# Altium footprint library TPD2E001DZDR.PcbLib: 1 footprints
Each footprint in its own frame and in the unit in brackets; x right, y up, seen from the top. Pads: shape width x height; smd on the part's side, far side on the other; paste and mask are expansions set on the pad; w line width, h text height; cw(c..) or ccw(c..) is an arc to the next point about the centre after c.
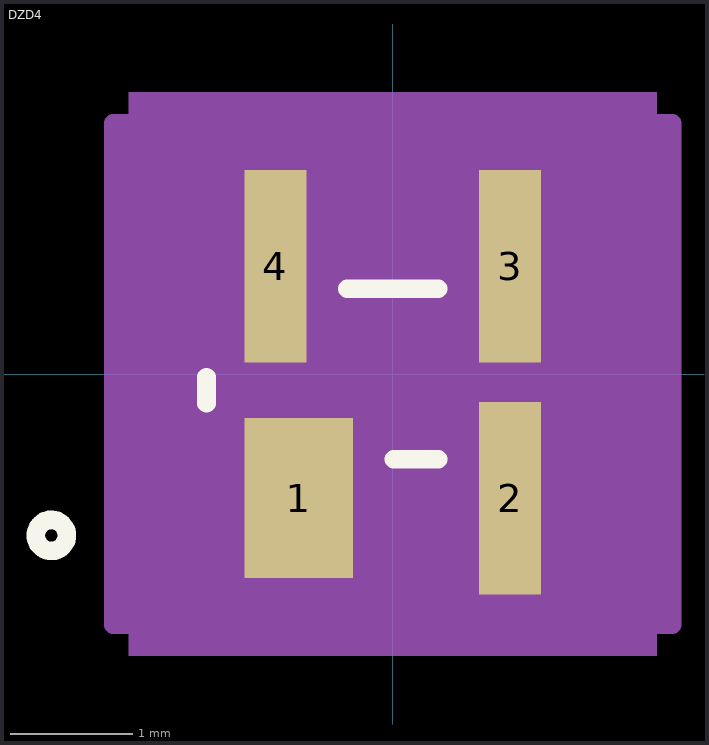
[diagram p0: the footprint, top view; thin cyan lines are the x and y axes]

## DZD4 [mil]
pads (4):
  rect 35x51.56 smd paste+0 mask+0: 1(-30.3,-40)
  rect 20x62.06 smd paste+0 mask+0: 2(37.8,-40) 3(37.8,34.75) 4(-37.8,34.75)
Top Overlay:
  circle w6: c-110,-52 r5
  lines w6: -60,-9.46 -60,-1.04 ; -14.7,27.5 14.7,27.5 ; 0.3,-27.5 14.7,-27.5
Mechanical 5:
  region: -85,90.78 85,90.78 85,-90.78 -85,-90.78
Mechanical 13:
  circle w0: c-50,-17.5 r5
  lines w1: -60,-27.5 60,-27.5 60,27.5 -60,27.5 -60,-27.5 ; -47.8,-52 -47.8,-27.5 -12.8,-27.5 -12.8,-52 -47.8,-52 ; -47.8,27.5 -27.8,27.5 -27.8,52 -47.8,52 -47.8,27.5 ; 27.8,-52 27.8,-27.5 47.8,-27.5 47.8,-52 27.8,-52 ; 27.8,27.5 47.8,27.5 47.8,52 27.8,52 27.8,27.5
Mechanical 15:
  region: -90,-80.78 -90,80.78 90,80.78 90,-80.78
  lines w6: -90,-80.78 90,-80.78 90,80.78 -90,80.78 -90,-80.78
3D body "DZD4.step": height 48.11, standoff 0, extent -60,-52.01 60,52.01